# EAGLE library part DG211 (library ic)
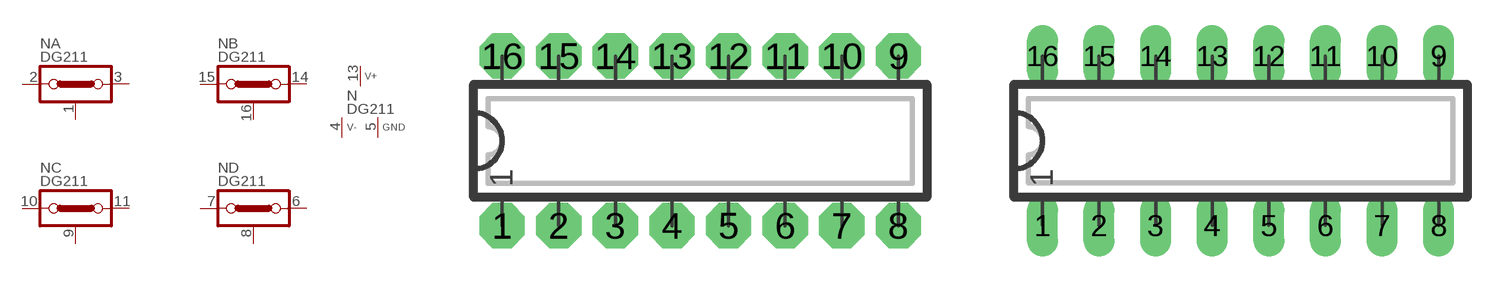
[diagram p15: symbol with the pads of DIP16N; footprints DIP16N, DIP16L]

Designator prefix N; gates A=SD1X1OFF B=SD1X1OFF C=SD1X1OFF D=SD1X1OFF P=V+-GND

## DG211N  [DIP16N]
1  A:D  in
2  A:S1
3  A:S2
4  P:V-  pwr
5  P:GND  pwr
6  D:S2
7  D:S1
8  D:D  in
9  C:D  in
10  C:S1
11  C:S2
13  P:V+  pwr
14  B:S2
15  B:S1
16  B:D  in

## DG211  [DIP16L]
Pads as for DIP16N

## DG211L  [DIP16L]
Pads as for DIP16N

## DG211R  [DIP16R]
Pads as for DIP16N

## Footprint DIP16N (pad centres in mm)
DIP-16 Standard IC package, 16 pins
drill 0.813 pad 2.032 octagon: 1 -8.89,-3.81; 2 -6.35,-3.81; 3 -3.81,-3.81; 4 -1.27,-3.81; 5 1.27,-3.81; 6 3.81,-3.81; 7 6.35,-3.81; 8 8.89,-3.81; 9 8.89,3.81; 10 6.35,3.81; 11 3.81,3.81; 12 1.27,3.81; 13 -1.27,3.81; 14 -3.81,3.81; 15 -6.35,3.81; 16 -8.89,3.81

## Footprint DIP16L (pad centres in mm)
DIP-16, long pads Standard IC package, 16 pins
drill 0.813 pad 1.397 long: 1 -8.89,-3.81; 2 -6.35,-3.81; 3 -3.81,-3.81; 4 -1.27,-3.81; 5 1.27,-3.81; 6 3.81,-3.81; 7 6.35,-3.81; 8 8.89,-3.81; 9 8.89,3.81; 10 6.35,3.81; 11 3.81,3.81; 12 1.27,3.81; 13 -1.27,3.81; 14 -3.81,3.81; 15 -6.35,3.81; 16 -8.89,3.81

## Footprint DIP16R (pad centres in mm)
DIP-16, reduced pads Standard IC package, 16 pins
drill 0.813 pad 1.397 square: 1 -8.89,-3.81; 2 -6.35,-3.81; 3 -3.81,-3.81; 4 -1.27,-3.81; 5 1.27,-3.81; 6 3.81,-3.81; 7 6.35,-3.81; 8 8.89,-3.81; 9 8.89,3.81; 10 6.35,3.81; 11 3.81,3.81; 12 1.27,3.81; 13 -1.27,3.81; 14 -3.81,3.81; 15 -6.35,3.81; 16 -8.89,3.81